# EAGLE library part TPS2115APW (library Eagle_CAD_parts)
IC OR CTRLR SRC SELECT 8TSSOP
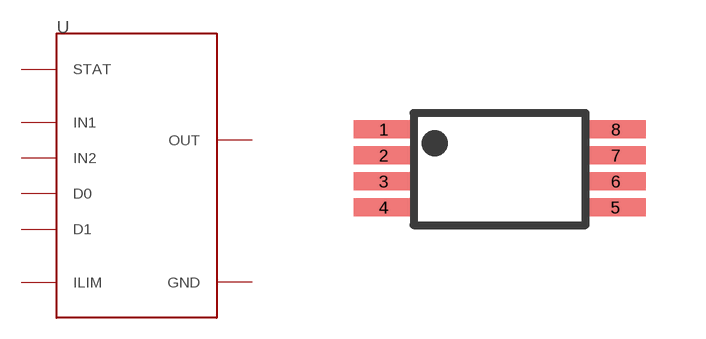
[diagram p12: symbol with the pads of 8-TSSOP; footprint 8-TSSOP]

Designator prefix U

## TPS2115APW_8-TSSOP (DIGIKEY_PART_NUMBER: 296-26918-5-ND; MANUFACTURER_PART_NUMBER: TPS2115APW)  [8-TSSOP]
1  STAT
2  D0
3  D1
4  ILIM
5  GND
6  IN2
7  OUT
8  IN1

## Footprint 8-TSSOP (pad centres in mm)
smd 1.5 x 0.45: 1 -2.8,0.95; 2 -2.8,0.3; 3 -2.8,-0.35; 4 -2.8,-1; 5 3,-1; 6 3,-0.35; 7 3,0.3; 8 3,0.95